# Altium schematic symbol library misc_parts.SchLib: 2 symbols
Pins are listed as number, name and electrical type; pins without a type are passive.

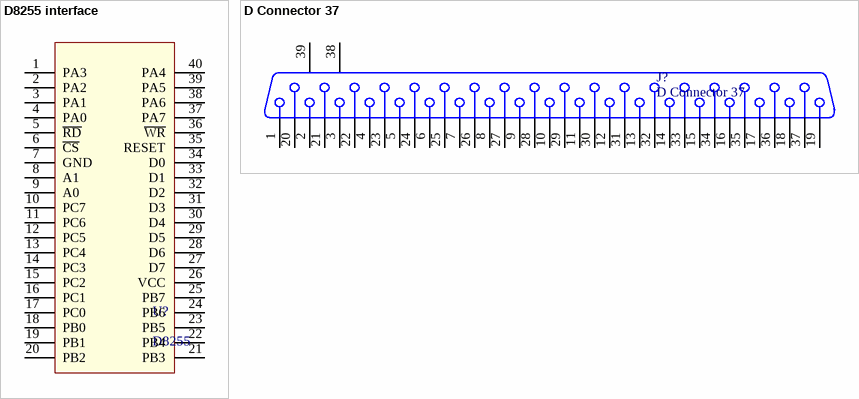
[diagram p0: symbols D8255 interface to D Connector 37]

## D8255 interface
designator U?, comment D8255
programmable pheripherial interface
footprint PDIP40 (Footprint not found)
pins: 1 PA3, 2 PA2, 3 PA1, 4 PA0, 5 ~{RD}, 6 ~{CS}, 7 GND, 8 A1, 9 A0, 10 PC7, 11 PC6, 12 PC5, 13 PC4, 14 PC3, 15 PC2, 16 PC1, 17 PC0, 18 PB0, 19 PB1, 20 PB2, 21 PB3, 22 PB4, 23 PB5, 24 PB6, 25 PB7, 26 VCC, 27 D7, 28 D6, 29 D5, 30 D4, 31 D3, 32 D2, 33 D1, 34 D0, 35 RESET, 36 ~{WR}, 37 PA7, 38 PA6, 39 PA5, 40 PA4

## D Connector 37
designator J?
Receptacle Assembly, 37 Position, Right Angle; Positions: 37; Orientation: Right Angle; Gender: Receptacle
signal-integrity model Connector
footprint DSUB37A (Connector; D Subminiature; 37 Position; Right Angle; Pitch 1.385 mm)
pins: 1, 2, 3, 4, 5, 6, 7, 8, 9, 10, 11, 12, 13, 14, 15, 16, 17, 18, 19, 20, 21, 22, 23, 24, 25, 26, 27, 28, 29, 30, 31, 32, 33, 34, 35, 36, 37, 38 MH1, 39 MH2